# Altium footprint library MyPcbLib1.PcbLib: 13 footprints
Each footprint in its own frame and in the unit in brackets; x right, y up, seen from the top. Pads: shape width x height; smd on the part's side, far side on the other; paste and mask are expansions set on the pad; w line width, h text height; cw(c..) or ccw(c..) is an arc to the next point about the centre after c.
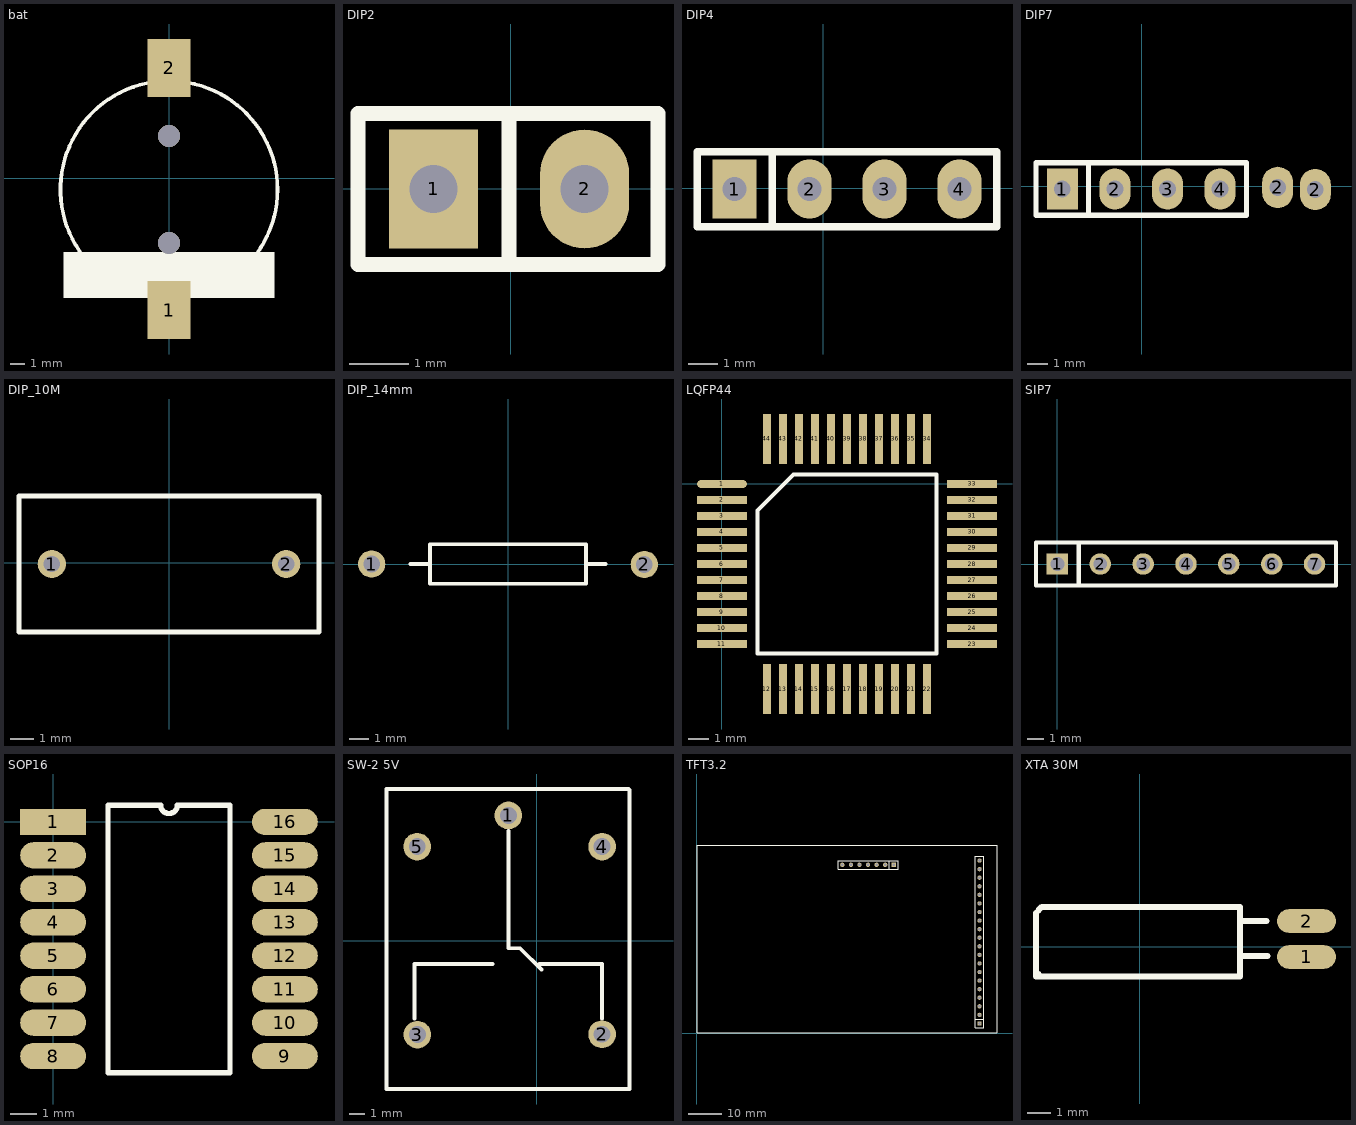
[diagram p0: the footprints below, top view; thin cyan lines are the x and y axes]

## bat [mm]
pads (2):
  rect 3x4 smd: 1(0,-9.1) 2(0,7.625)
via 0,2.925 diameter 1.5 hole 1.5
via 0,-4.475 diameter 1.5 hole 1.5
Top Overlay:
  circle w0.254: c0,-0.775 r7.5
  rectangle: -7.3,-8.275 7.3,-5.1

## DIP2 [mm]
pads (2):
  rect 1.5x2 hole 0.813: 1(-1.3,0)
  oval 1.5x2 hole 0.813: 2(1.24,0)
Top Overlay:
  lines w0.254: -0.03,-1.27 -0.03,1.27 ; 2.475,-1.272 -2.57,-1.27 -2.57,1.27 2.475,1.27 2.475,-1.22

## DIP4 [mm]
pads (4):
  rect 1.5x2 hole 0.813: 1(-3,-0.025)
  oval 1.5x2 hole 0.813: 2(-0.46,-0.025) 3(2.08,-0.025) 4(4.62,-0.025)
Top Overlay:
  lines w0.254: -1.73,-1.295 -1.73,1.245 ; -4.27,-1.295 -4.27,1.245 5.89,1.245 5.89,-1.295 -4.27,-1.295

## DIP7 [mm]
pads (6):
  rect 1.5x2 hole 0.813: 1(-3.825,-0.125)
  oval 1.5x2 hole 0.813: 2(-1.285,-0.125) 2(6.575,-0.05) 2(8.39,-0.15) 3(1.255,-0.125) 4(3.795,-0.125)
Top Overlay:
  lines w0.254: -2.555,-1.395 -2.555,1.145 ; -5.095,-1.395 5.065,-1.395 5.065,1.145 -5.095,1.145 -5.095,-1.395

## DIP_10M [mm]
pads (2):
  round 1.2 hole 0.7: 1(-5.014,-0.048) 2(4.986,-0.048)
Top Overlay:
  lines w0.2: -6.414,-2.953 6.386,-2.953 6.386,2.857 -6.414,2.857 -6.414,-2.953

## DIP_14mm [mm]
pads (2):
  round 1.4 hole 0.85: 1(-7,0) 2(7,-0.025)
Top Overlay:
  lines w0.2: -5,0 -4,0 ; 4,0 5,0 ; -4,-1.016 4,-1.016 4,1.016 -4,1.016 -4,-1.016

## LQFP44 [mm]
pads (44):
  oval 2.5x0.4 smd: 1(0,0)
  rect 2.5x0.4 smd: 2(0,-0.8) 3(0,-1.6) 4(0,-2.4) 5(0,-3.2) 6(0,-4) 7(0,-4.8) 8(0,-5.6) 9(0,-6.4) 10(0,-7.2) 11(0,-8) 23(12.5,-8) 24(12.5,-7.2) 25(12.5,-6.4) 26(12.5,-5.6) 27(12.5,-4.8) 28(12.5,-4) 29(12.5,-3.2) 30(12.5,-2.4) 31(12.5,-1.6) 32(12.5,-0.8) 33(12.5,0)
  rect 0.4x2.5 smd: 12(2.25,-10.25) 13(3.05,-10.25) 14(3.85,-10.25) 15(4.65,-10.25) 16(5.45,-10.25) 17(6.25,-10.25) 18(7.05,-10.25) 19(7.85,-10.25) 20(8.65,-10.25) 21(9.45,-10.25) 22(10.25,-10.25) 34(10.25,2.25) 35(9.45,2.25) 36(8.65,2.25) 37(7.85,2.25) 38(7.05,2.25) 39(6.25,2.25) 40(5.45,2.25) 41(4.65,2.25) 42(3.85,2.25) 43(3.05,2.25) 44(2.25,2.25)
Top Overlay:
  lines w0.2: 1.785,-8.465 10.715,-8.465 10.715,0.465 3.57,0.465 1.785,-1.32 1.785,-8.465

## SIP7 [mil]
pads (7):
  rect 50x50 hole 32: 1(0,0)
  round 50 hole 32: 2(100,0) 3(200,0) 4(300,0) 5(400,0) 6(500,0) 7(600,0)
Top Overlay:
  lines w10: 50,-50 50,50 ; -50,-50 650,-50 650,50 -50,50 -50,-50

## SIP20 [mm]

## SOP16 [mm]
pads (16):
  rect 2.5x1 smd: 1(0,0)
  oval 2.5x1 smd: 2(0,-1.27) 3(0,-2.54) 4(0,-3.81) 5(0,-5.08) 6(0,-6.35) 7(0,-7.62) 8(0,-8.89) 9(8.8,-8.89) 10(8.8,-7.62) 11(8.8,-6.35) 12(8.8,-5.08) 13(8.8,-3.81) 14(8.8,-2.54) 15(8.8,-1.27) 16(8.8,0)
Top Overlay:
  lines w0.2: 2.085,-9.525 2.085,0.635 4.082,0.635 ccw(c4.4,0.635) 4.717,0.635 6.715,0.635 6.715,-9.525 2.085,-9.525

## SW-2 5V [mm]
pads (5):
  round 1.8 hole 1.1: 1(-1.863,8.149) 2(4.233,-6.075) 3(-7.776,-6.1) 4(4.233,6.117) 5(-7.784,6.117)
Top Overlay:
  lines w0.254: -9.784,-9.633 -9.782,-9.631 ; -9.483,9.856 5.757,9.856 5.966,9.856 6.017,9.805 6.017,9.367 ; -9.034,9.856 -9.773,9.856 -9.782,9.865 -9.782,-9.631 ; -7.959,-5.059 -7.959,-4.043 -7.959,-2.011 -7.959,-1.503 -2.879,-1.503 ; -1.863,7.133 -1.863,-0.487 -1.105,-0.487 0.283,-1.875 ; 0.169,-1.503 4.233,-1.503 4.233,-4.043 4.233,-5.059 ; 5.757,-9.631 -9.483,-9.631 ; 6.017,9.668 6.017,-9.631 -9.483,-9.631 ; -9.782,-9.631 -9.483,-9.631

## TFT3.2 [mil]
pads (27):
  rect 50x50 hole 32: 1(2295.28,1962.32) 1(3295.28,111.53)
  round 50 hole 32: 2(2195.28,1962.32) 2(3295.28,211.53) 3(2095.28,1962.32) 3(3295.28,311.53) 4(1995.29,1962.32) 4(3295.28,411.53) 5(1895.29,1962.32) 5(3295.28,511.53) 6(1795.29,1962.32) 6(3295.28,611.53) 7(1695.29,1962.32) 7(3295.28,711.53) 8(3295.28,811.53) 9(3295.28,911.53) 10(3295.28,1011.53) 11(3295.28,1111.53) 12(3295.28,1211.53) 13(3295.28,1311.53) 14(3295.28,1411.53) 15(3295.28,1511.53) 16(3295.28,1611.53) 17(3295.28,1711.53) 18(3295.28,1811.53) 19(3295.28,1911.53) 20(3295.28,2011.53)
Top Overlay:
  lines w10: 0.01,2.52 0.01,2187.99 4.21,2192.2 44.3,2192.2 ; 1.26,1.26 34.46,1.26 3495.09,1.26 ; 34.46,2192.2 3499.34,2192.2 3499.34,2.55 ; 2245.28,1912.32 2245.28,2012.32 ; 3245.28,161.53 3345.28,161.53 ; 1645.29,1912.32 1645.29,2012.32 2345.28,2012.32 2345.28,1912.32 1645.29,1912.32 ; 3245.28,61.53 3245.28,2061.53 3345.28,2061.53 3345.28,61.53 3245.28,61.53

## XTA 30M [mm]
pads (2):
  oval 2.5x1 smd: 1(7.075,-0.437) 2(7.075,1.087)
Top Overlay:
  lines w0.254: -4.4,1.438 -4.4,-1.262 ; -4.3,-1.162 -4.4,-1.262 ; -4.3,1.538 -4.15,1.688 4.25,1.688 4.25,-1.262 -4.4,-1.262 ; 4.275,-0.387 5.425,-0.387 ; 4.35,1.088 5.375,1.088